# Altium footprint library JST.PcbLib: 4 footprints
Each footprint in its own frame and in the unit in brackets; x right, y up, seen from the top. Pads: shape width x height; smd on the part's side, far side on the other; paste and mask are expansions set on the pad; w line width, h text height; cw(c..) or ccw(c..) is an arc to the next point about the centre after c.
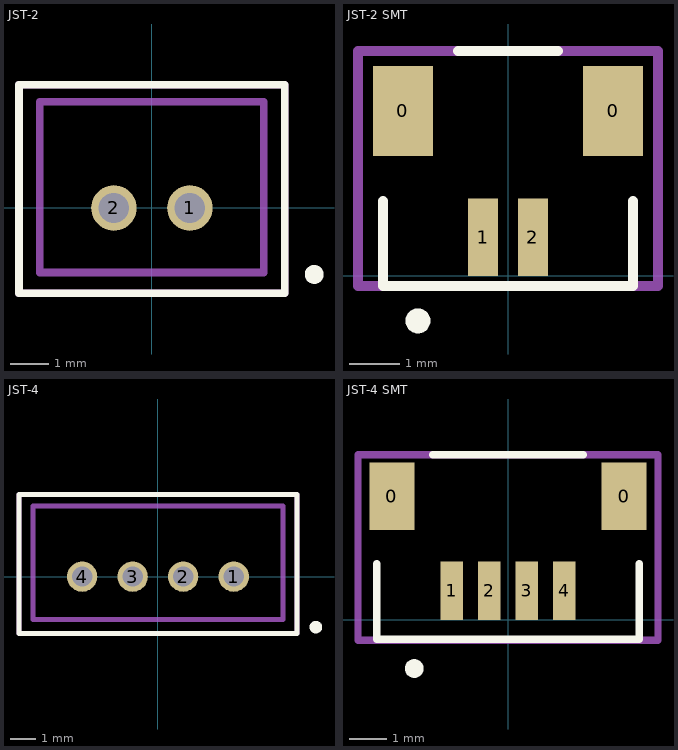
[diagram p0: the footprints below, top view; thin cyan lines are the x and y axes]

## JST-2 [mm] "B2B-PH-K-S(LF)(SN)"
height 6
pads (2):
  round 1.2 hole 0.8: 1(1,0) 2(-1,0)
Top Overlay:
  circle w0.25: c4.275,-1.75 r0.125
  lines w0.2: -3.5,-2.25 -3.5,3.25 3.5,3.25 3.5,-2.25 -3.5,-2.25
Mechanical 13:
  lines w0.2: -2.95,-1.7 -2.95,2.8 2.95,2.8 2.95,-1.7 -2.95,-1.7
Mechanical 15:
  lines w0.2: -3.5,-2.25 -3.5,3.25 3.5,3.25 3.5,-2.25 -3.5,-2.25
3D body: height 6, standoff 0, extent -3.05,-1.8 3.05,2.9

## JST-2 SMT [mm] "BM02B-SRSS-TB"
height 4.25
pads (4):
  rect 1.2x1.8 smd: 0(-2.1,3.3) 0(2.1,3.3)
  rect 0.6x1.55 smd: 1(-0.5,0.775) 2(0.5,0.775)
Top Overlay:
  circle w0.25: c-1.8,-0.9 r0.125
  lines w0.2: -2.5,1.5 -2.5,-0.2 2.5,-0.2 2.5,1.5 ; -1,4.5 1,4.5
Mechanical 15:
  lines w0.2: -3,-0.2 -3,4.5 3,4.5 3,-0.2 -3,-0.2
3D body: height 4.25, standoff -0.07, extent -2,0.4 2,4

## JST-4 [mm]
height 6
pads (4):
  round 1.2 hole 0.8: 1(3,0) 2(1,0) 3(-1,0) 4(-3,0)
Top Overlay:
  circle w0.25: c6.25,-2 r0.125
  lines w0.2: -5.5,-2.25 -5.5,3.25 5.5,3.25 5.5,-2.25 -5.5,-2.25
Mechanical 13:
  lines w0.2: -4.95,-1.7 -4.95,2.8 4.95,2.8 4.95,-1.7 -4.95,-1.7
Mechanical 15:
  lines w0.2: -5.5,-2.25 -5.5,3.25 5.5,3.25 5.5,-2.25 -5.5,-2.25
3D body: height 6, standoff 0, extent -4.95,-1.7 4.95,2.8

## JST-4 SMT [mm] "BM04B-GHS-TBT"
height 4.05
pads (6):
  rect 1.2x1.8 smd: 0(-3.1,3.3) 0(3.1,3.3)
  rect 0.6x1.55 smd: 1(-1.5,0.775) 2(-0.5,0.775) 3(0.5,0.775) 4(1.5,0.775)
Top Overlay:
  circle w0.25: c-2.5,-1.3 r0.125
  lines w0.2: -3.5,1.5 -3.5,-0.525 3.5,-0.525 3.5,1.5 ; -2,4.4 2,4.4
Mechanical 15:
  lines w0.2: -4,-0.55 -4,4.4 4,4.4 4,-0.55 -4,-0.55
3D body: height 4.25, standoff -0.07, extent -3,0.4 3,4